# Altium footprint library SOT-23.PcbLib: 2 footprints
Each footprint in its own frame and in the unit in brackets; x right, y up, seen from the top. Pads: shape width x height; smd on the part's side, far side on the other; paste and mask are expansions set on the pad; w line width, h text height; cw(c..) or ccw(c..) is an arc to the next point about the centre after c.
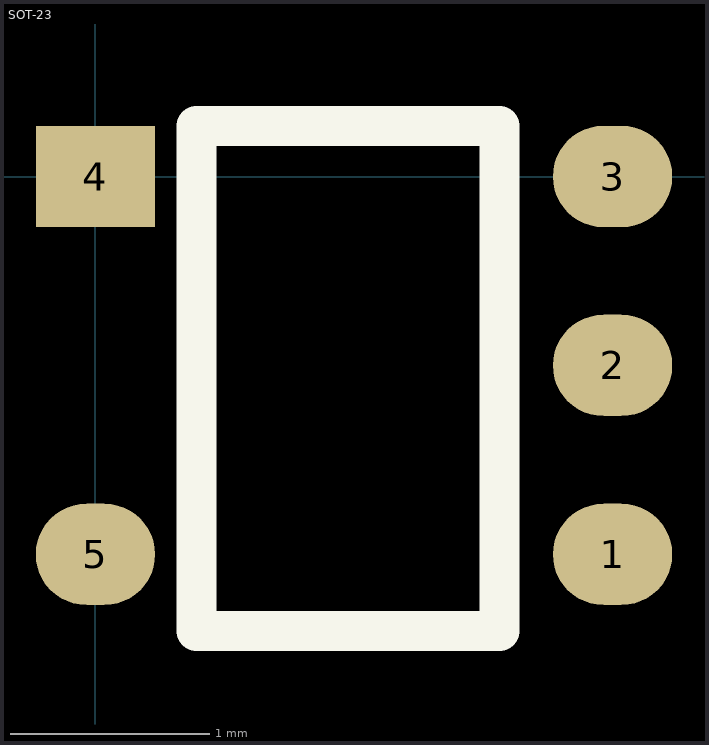
[diagram p0: the footprints below, top view; thin cyan lines are the x and y axes]

## PCBComponent_1 [mm]

## SOT-23 [mm]
pads (5):
  oval 0.6x0.51 smd: 1(2.6,-1.9) 2(2.6,-0.95) 3(2.6,0) 5(0,-1.9)
  rect 0.6x0.51 smd: 4(0,0)
Top Overlay:
  lines w0.2: 0.508,-2.286 0.508,0.254 2.032,0.254 2.032,-2.286 0.508,-2.286